# Altium integrated library ST Video Switch.IntLib: 11 symbols
Pins are listed as number, name and electrical type; pins without a type are passive.

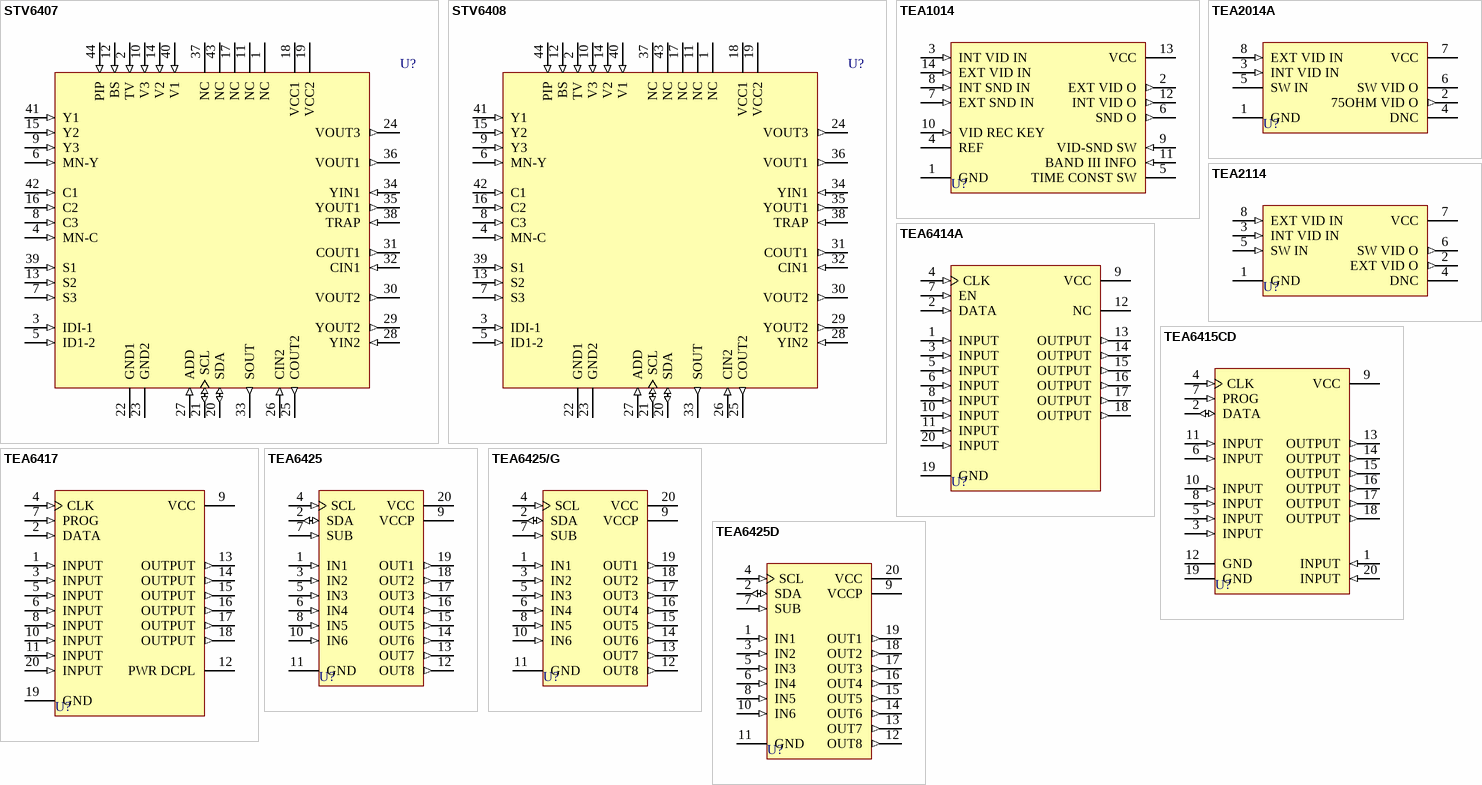
[diagram p0: symbols STV6407 to TEA6425D]

## STV6407
designator U?
Video Matrix; Published: 24-Aug-2001; LatestRevisionDate: 17-Jul-2002; LatestRevisionNote: Re-released for DXP Platform.; DatasheetDocument: Jun-1995; PackageDocument: Nov-1999; PackageReference: PQFP44A; Publisher: Altium Limited; Code_JEDEC: MS-022-AB; Code_IPC: QFP10X10-44
footprint PQFP44A (QFP; 44 Leads; Body 10 x 10 mm; Pitch 0.8 mm)
pins: 1 NC, 2 TV (in), 3 IDI-1 (in), 4 MN-C (in), 5 ID1-2 (in), 6 MN-Y (in), 7 S3 (in), 8 C3 (in), 9 Y3 (in), 10 V3 (in), 11 NC, 12 BS (in), 13 S2 (in), 14 V2 (in), 15 Y2 (in), 16 C2 (in), 17 NC, 18 VCC1 (power), 19 VCC2 (power), 20 SDA (io), 21 SCL (io), 22 GND1 (power), 23 GND2 (power), 24 VOUT3 (out), 25 COUT2 (out), 26 CIN2 (in), 27 ADD (in), 28 YIN2 (in), 29 YOUT2 (out), 30 VOUT2 (out), 31 COUT1 (out), 32 CIN1 (in), 33 SOUT (out), 34 YIN1 (in), 35 YOUT1 (out), 36 VOUT1 (out), 37 NC, 38 TRAP (in), 39 S1 (in), 40 V1 (in), 41 Y1 (in), 42 C1 (in), 43 NC, 44 PIP (in)

## STV6408
designator U?
Video Matrix; Published: 24-Aug-2001; LatestRevisionDate: 17-Jul-2002; LatestRevisionNote: Re-released for DXP Platform.; DatasheetDocument: Jun-1996; PackageDocument: Nov-1999; PackageReference: PQFP44A; Publisher: Altium Limited; Code_JEDEC: MS-022-AB; Code_IPC: QFP10X10-44
footprint PQFP44A (QFP; 44 Leads; Body 10 x 10 mm; Pitch 0.8 mm)
pins: 1 NC, 2 TV (in), 3 IDI-1 (in), 4 MN-C (in), 5 ID1-2 (in), 6 MN-Y (in), 7 S3 (in), 8 C3 (in), 9 Y3 (in), 10 V3 (in), 11 NC, 12 BS (in), 13 S2 (in), 14 V2 (in), 15 Y2 (in), 16 C2 (in), 17 NC, 18 VCC1 (power), 19 VCC2 (power), 20 SDA (io), 21 SCL (io), 22 GND1 (power), 23 GND2 (power), 24 VOUT3 (out), 25 COUT2 (out), 26 CIN2 (in), 27 ADD (in), 28 YIN2 (in), 29 YOUT2 (out), 30 VOUT2 (out), 31 COUT1 (out), 32 CIN1 (in), 33 SOUT (out), 34 YIN1 (in), 35 YOUT1 (out), 36 VOUT1 (out), 37 NC, 38 TRAP (in), 39 S1 (in), 40 V1 (in), 41 Y1 (in), 42 C1 (in), 43 NC, 44 PIP (in)

## TEA1014
designator U?
Video and Audio Signal Switching for the Peri-Television Plug; Published: 24-Aug-2001; LatestRevisionDate: 17-Jul-2002; LatestRevisionNote: Re-released for DXP Platform.; DatasheetDocument: Mar-1991; PackageDocument: Jan-1997; PackageReference: DIP14; Publisher: Altium Limited
footprint DIP14 (DIP; 14 Leads; Row Spacing 7.62 mm; Pitch 2.54 mm)
pins: 1 GND (power), 2 EXT VID O (out), 3 INT VID IN (in), 4 REF, 5 TIME CONST SW (oc), 6 SND O (out), 7 EXT SND IN (in), 8 INT SND IN (in), 9 VID-SND SW (in), 10 VID REC KEY (in), 11 BAND III INFO (in), 12 INT VID O (out), 13 VCC (power), 14 EXT VID IN (in)

## TEA2014A
designator U?
Video Switch; Note: Do Not Connect (DNC) pin number 4.; Published: 24-Aug-2001; LatestRevisionDate: 17-Jul-2002; LatestRevisionNote: Re-released for DXP Platform.; DatasheetDocument: May-1996; PackageReference: DIP8; Publisher: Altium Limited; Code_JEDEC: MO-001-AN
footprint DIP8 (DIP; 8 Leads; Row Spacing 7.62 mm; Pitch 2.54 mm)
pins: 1 GND (power), 2 75OHM VID O (out), 3 INT VID IN (in), 4 DNC, 5 SW IN, 6 SW VID O (oe), 7 VCC (power), 8 EXT VID IN (in)

## TEA2114
designator U?
Video Switch; Note: Do Not Connect (DNC) pin number 4.; Published: 24-Aug-2001; LatestRevisionDate: 17-Jul-2002; LatestRevisionNote: Re-released for DXP Platform.; DatasheetDocument: Sep-1998; PackageReference: DIP8; Publisher: Altium Limited; Code_JEDEC: MO-001-AN
footprint DIP8 (DIP; 8 Leads; Row Spacing 7.62 mm; Pitch 2.54 mm)
pins: 1 GND (power), 2 EXT VID O (out), 3 INT VID IN (in), 4 DNC, 5 SW IN (in), 6 SW VID O (out), 7 VCC (power), 8 EXT VID IN (in)

## TEA6414A
designator U?
Bus-Controlled Video Matrix Switch; Published: 24-Aug-2001; LatestRevisionDate: 17-Jul-2002; LatestRevisionNote: Re-released for DXP Platform.; DatasheetDocument: Aug-1992; PackageDocument: Jun-1998; PackageReference: DIP20; Publisher: Altium Limited; Code_JEDEC: MS-015-AE
footprint DIP20 (DIP; 20 Leads; Row Spacing 7.62 mm; Pitch 2.54 mm)
pins: 1 INPUT (in), 2 DATA (in), 3 INPUT (in), 4 CLK (in), 5 INPUT (in), 6 INPUT (in), 7 EN (in), 8 INPUT (in), 9 VCC (power), 10 INPUT (in), 11 INPUT (in), 12 NC, 13 OUTPUT (out), 14 OUTPUT (out), 15 OUTPUT (out), 16 OUTPUT (out), 17 OUTPUT (out), 18 OUTPUT (out), 19 GND (power), 20 INPUT (in)

## TEA6415CD
designator U?
Bus-Controlled Video Matrix Switch; Published: 24-Aug-2001; LatestRevisionDate: 17-Jul-2002; LatestRevisionNote: Re-released for DXP Platform.; DatasheetDocument: Jan-1996; PackageDocument: Jul-2001; PackageReference: SO20; Publisher: Altium Limited; Code_JEDEC: MS-013-AC; Code_IPC: SO20W
footprint SO20 (Small Outline, Plastic; 20 Leads; Body Width 7.5 mm; Pitch 1.27 mm)
pins: 1 INPUT (in), 2 DATA (io), 3 INPUT (in), 4 CLK (in), 5 INPUT (in), 6 INPUT (in), 7 PROG (in), 8 INPUT (in), 9 VCC (power), 10 INPUT (in), 11 INPUT (in), 12 GND (power), 13 OUTPUT (out), 14 OUTPUT (out), 15 OUTPUT (out), 16 OUTPUT (out), 17 OUTPUT (out), 18 OUTPUT (out), 19 GND (power), 20 INPUT (in)

## TEA6417
designator U?
Bus-Controlled Video Matrix Switch; Published: 24-Aug-2001; LatestRevisionDate: 17-Jul-2002; LatestRevisionNote: Re-released for DXP Platform.; DatasheetDocument: May-1996; PackageDocument: Jun-1998; PackageReference: DIP20; Publisher: Altium Limited; Code_JEDEC: MS-015-AE
footprint DIP20 (DIP; 20 Leads; Row Spacing 7.62 mm; Pitch 2.54 mm)
pins: 1 INPUT (in), 2 DATA (in), 3 INPUT (in), 4 CLK (in), 5 INPUT (in), 6 INPUT (in), 7 PROG (in), 8 INPUT (in), 9 VCC (power), 10 INPUT (in), 11 INPUT (in), 12 PWR DCPL, 13 OUTPUT (out), 14 OUTPUT (out), 15 OUTPUT (out), 16 OUTPUT (out), 17 OUTPUT (out), 18 OUTPUT (out), 19 GND (power), 20 INPUT (in)

## TEA6425
designator U?
Video Cellular Matrix; Published: 24-Aug-2001; LatestRevisionDate: 17-Jul-2002; LatestRevisionNote: Re-released for DXP Platform.; DatasheetDocument: May-1996; PackageDocument: Jun-1998; PackageReference: DIP20; Publisher: Altium Limited; Code_JEDEC: MS-015-AE
footprint DIP20 (DIP; 20 Leads; Row Spacing 7.62 mm; Pitch 2.54 mm)
pins: 1 IN1 (in), 2 SDA (io), 3 IN2 (in), 4 SCL (in), 5 IN3 (in), 6 IN4 (in), 7 SUB (in), 8 IN5 (in), 9 VCCP (power), 10 IN6 (in), 11 GND (power), 12 OUT8 (out), 13 OUT7 (out), 14 OUT6 (out), 15 OUT5 (out), 16 OUT4 (out), 17 OUT3 (out), 18 OUT2 (out), 19 OUT1 (out), 20 VCC (power)

## TEA6425/G
designator U?
Video Cellular Matrix; Published: 24-Aug-2001; LatestRevisionDate: 17-Jul-2002; LatestRevisionNote: Re-released for DXP Platform.; DatasheetDocument: Oct-1994; PackageDocument: Jun-1998; PackageReference: DIP20; Publisher: Altium Limited; Code_JEDEC: MS-015-AE
footprint DIP20 (DIP; 20 Leads; Row Spacing 7.62 mm; Pitch 2.54 mm)
pins: 1 IN1 (in), 2 SDA (io), 3 IN2 (in), 4 SCL (in), 5 IN3 (in), 6 IN4 (in), 7 SUB (in), 8 IN5 (in), 9 VCCP (power), 10 IN6 (in), 11 GND (power), 12 OUT8 (out), 13 OUT7 (out), 14 OUT6 (out), 15 OUT5 (out), 16 OUT4 (out), 17 OUT3 (out), 18 OUT2 (out), 19 OUT1 (out), 20 VCC (power)

## TEA6425D
designator U?
Video Cellular Matrix; Published: 24-Aug-2001; LatestRevisionDate: 17-Jul-2002; LatestRevisionNote: Re-released for DXP Platform.; DatasheetDocument: May-1996; PackageDocument: Jul-2001; PackageReference: SO20; Publisher: Altium Limited; Code_JEDEC: MS-013-AC; Code_IPC: SO20W
footprint SO20 (Small Outline, Plastic; 20 Leads; Body Width 7.5 mm; Pitch 1.27 mm)
pins: 1 IN1 (in), 2 SDA (io), 3 IN2 (in), 4 SCL (in), 5 IN3 (in), 6 IN4 (in), 7 SUB (in), 8 IN5 (in), 9 VCCP (power), 10 IN6 (in), 11 GND (power), 12 OUT8 (out), 13 OUT7 (out), 14 OUT6 (out), 15 OUT5 (out), 16 OUT4 (out), 17 OUT3 (out), 18 OUT2 (out), 19 OUT1 (out), 20 VCC (power)